# Altium integrated library Motorola Peripheral Bus Interface Controller.IntLib: 8 symbols
Pins are listed as number, name and electrical type; pins without a type are passive.

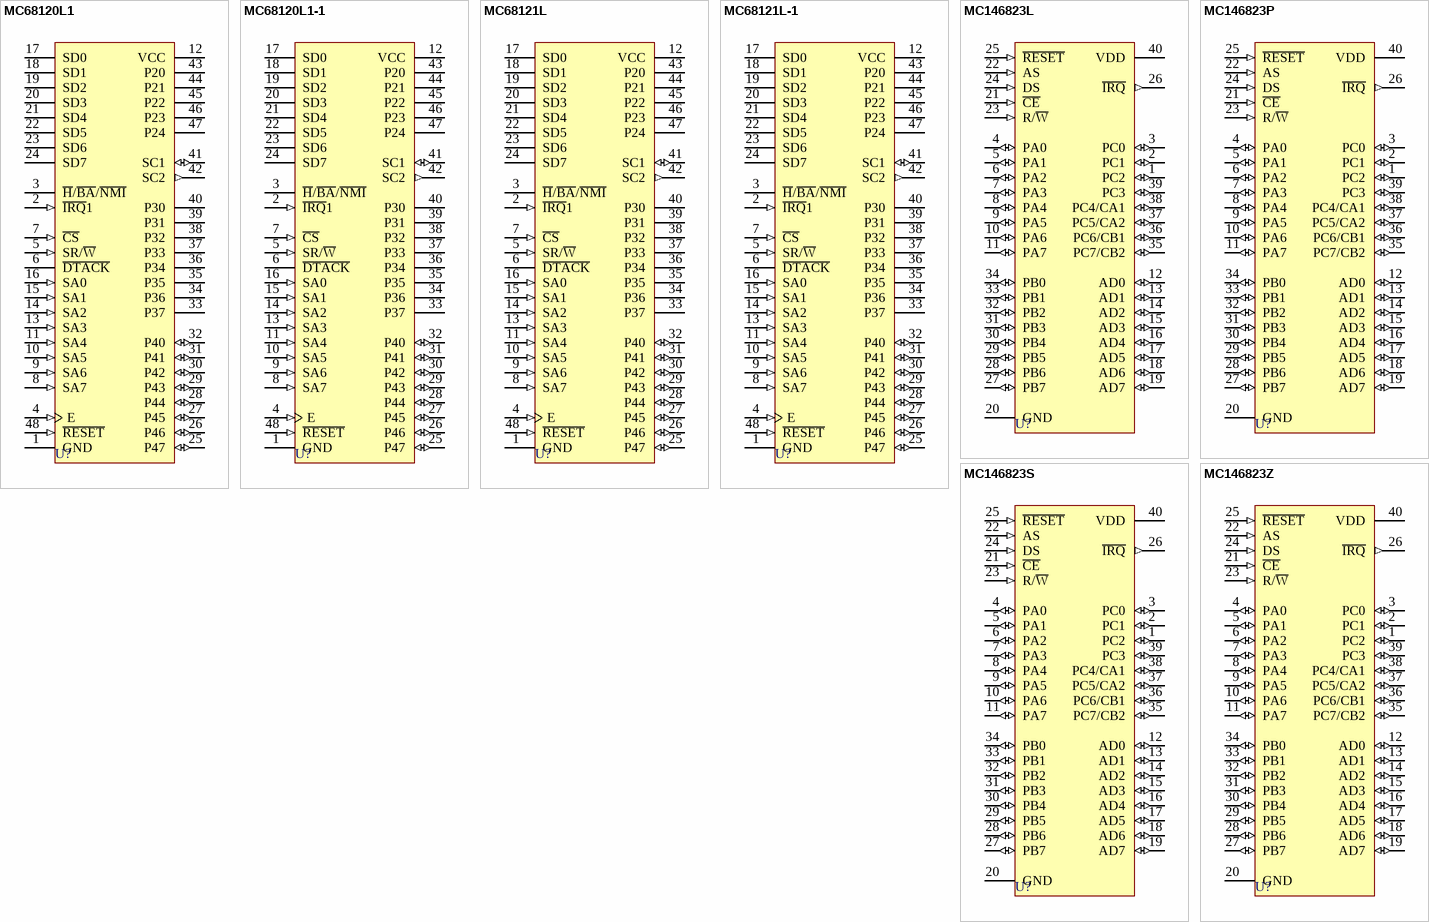
[diagram p0: symbols MC68120L1 to MC146823Z]

## MC68120L1
designator U?
Intelligent Peripheral Controller; Published: 17-Jul-2002; LatestRevisionDate: 06-Jun-2005; LatestRevisionNote: Stylized 3D Model Added.; DatasheetVersion: 1984; PackageReference: 740-02; Publisher: Altium Limited; PackageDescription: DIP; 48 Leads; Row Spacing 15.24 mm; Pitch 2.54 mm
footprint 740-02 (DIP; 48 Leads; Row Spacing 15.24 mm; Pitch 2.54 mm)
3D model 740-02 (DIP; 48 Leads; Row Spacing 15.24 mm; Pitch 2.54 mm)
pins: 1 GND (power), 2 ~{IRQ}1 (in), 3 ~{H}/~{BA}/~{NMI} (oc), 4 E (in), 5 SR/~{W} (in), 6 ~{DTACK} (oc), 7 ~{CS} (in), 8 SA7 (in), 9 SA6 (in), 10 SA5 (in), 11 SA4 (in), 12 VCC (power), 13 SA3 (in), 14 SA2 (in), 15 SA1 (in), 16 SA0 (in), 17 SD0 (hiz), 18 SD1 (hiz), 19 SD2 (hiz), 20 SD3 (hiz), 21 SD4 (hiz), 22 SD5 (hiz), 23 SD6 (hiz), 24 SD7 (hiz), 25 P47 (io), 26 P46 (io), 27 P45 (io), 28 P44 (io), 29 P43 (io), 30 P42 (io), 31 P41 (io), 32 P40 (io), 33 P37 (hiz), 34 P36 (hiz), 35 P35 (hiz), 36 P34 (hiz), 37 P33 (hiz), 38 P32 (hiz), 39 P31 (hiz), 40 P30 (hiz), 41 SC1 (io), 42 SC2 (out), 43 P20 (hiz), 44 P21 (hiz), 45 P22 (hiz), 46 P23 (hiz), 47 P24 (hiz), 48 ~{RESET} (in)

## MC68120L1-1
designator U?
Intelligent Peripheral Controller; Published: 17-Jul-2002; LatestRevisionDate: 06-Jun-2005; LatestRevisionNote: Stylized 3D Model Added.; DatasheetVersion: 1984; PackageReference: 740-02; Publisher: Altium Limited; PackageDescription: DIP; 48 Leads; Row Spacing 15.24 mm; Pitch 2.54 mm
footprint 740-02 (DIP; 48 Leads; Row Spacing 15.24 mm; Pitch 2.54 mm)
3D model 740-02 (DIP; 48 Leads; Row Spacing 15.24 mm; Pitch 2.54 mm)
pins: 1 GND (power), 2 ~{IRQ}1 (in), 3 ~{H}/~{BA}/~{NMI} (oc), 4 E (in), 5 SR/~{W} (in), 6 ~{DTACK} (oc), 7 ~{CS} (in), 8 SA7 (in), 9 SA6 (in), 10 SA5 (in), 11 SA4 (in), 12 VCC (power), 13 SA3 (in), 14 SA2 (in), 15 SA1 (in), 16 SA0 (in), 17 SD0 (hiz), 18 SD1 (hiz), 19 SD2 (hiz), 20 SD3 (hiz), 21 SD4 (hiz), 22 SD5 (hiz), 23 SD6 (hiz), 24 SD7 (hiz), 25 P47 (io), 26 P46 (io), 27 P45 (io), 28 P44 (io), 29 P43 (io), 30 P42 (io), 31 P41 (io), 32 P40 (io), 33 P37 (hiz), 34 P36 (hiz), 35 P35 (hiz), 36 P34 (hiz), 37 P33 (hiz), 38 P32 (hiz), 39 P31 (hiz), 40 P30 (hiz), 41 SC1 (io), 42 SC2 (out), 43 P20 (hiz), 44 P21 (hiz), 45 P22 (hiz), 46 P23 (hiz), 47 P24 (hiz), 48 ~{RESET} (in)

## MC68121L
designator U?
Intelligent Peripheral Controller; Published: 17-Jul-2002; LatestRevisionDate: 06-Jun-2005; LatestRevisionNote: Stylized 3D Model Added.; DatasheetVersion: 1984; PackageReference: 740-02; Publisher: Altium Limited; PackageDescription: DIP; 48 Leads; Row Spacing 15.24 mm; Pitch 2.54 mm
footprint 740-02 (DIP; 48 Leads; Row Spacing 15.24 mm; Pitch 2.54 mm)
3D model 740-02 (DIP; 48 Leads; Row Spacing 15.24 mm; Pitch 2.54 mm)
pins: 1 GND (power), 2 ~{IRQ}1 (in), 3 ~{H}/~{BA}/~{NMI} (oc), 4 E (in), 5 SR/~{W} (in), 6 ~{DTACK} (oc), 7 ~{CS} (in), 8 SA7 (in), 9 SA6 (in), 10 SA5 (in), 11 SA4 (in), 12 VCC (power), 13 SA3 (in), 14 SA2 (in), 15 SA1 (in), 16 SA0 (in), 17 SD0 (hiz), 18 SD1 (hiz), 19 SD2 (hiz), 20 SD3 (hiz), 21 SD4 (hiz), 22 SD5 (hiz), 23 SD6 (hiz), 24 SD7 (hiz), 25 P47 (io), 26 P46 (io), 27 P45 (io), 28 P44 (io), 29 P43 (io), 30 P42 (io), 31 P41 (io), 32 P40 (io), 33 P37 (hiz), 34 P36 (hiz), 35 P35 (hiz), 36 P34 (hiz), 37 P33 (hiz), 38 P32 (hiz), 39 P31 (hiz), 40 P30 (hiz), 41 SC1 (io), 42 SC2 (out), 43 P20 (hiz), 44 P21 (hiz), 45 P22 (hiz), 46 P23 (hiz), 47 P24 (hiz), 48 ~{RESET} (in)

## MC68121L-1
designator U?
Intelligent Peripheral Controller; Published: 17-Jul-2002; LatestRevisionDate: 06-Jun-2005; LatestRevisionNote: Stylized 3D Model Added.; DatasheetVersion: 1984; PackageReference: 740-02; Publisher: Altium Limited; PackageDescription: DIP; 48 Leads; Row Spacing 15.24 mm; Pitch 2.54 mm
footprint 740-02 (DIP; 48 Leads; Row Spacing 15.24 mm; Pitch 2.54 mm)
3D model 740-02 (DIP; 48 Leads; Row Spacing 15.24 mm; Pitch 2.54 mm)
pins: 1 GND (power), 2 ~{IRQ}1 (in), 3 ~{H}/~{BA}/~{NMI} (oc), 4 E (in), 5 SR/~{W} (in), 6 ~{DTACK} (oc), 7 ~{CS} (in), 8 SA7 (in), 9 SA6 (in), 10 SA5 (in), 11 SA4 (in), 12 VCC (power), 13 SA3 (in), 14 SA2 (in), 15 SA1 (in), 16 SA0 (in), 17 SD0 (hiz), 18 SD1 (hiz), 19 SD2 (hiz), 20 SD3 (hiz), 21 SD4 (hiz), 22 SD5 (hiz), 23 SD6 (hiz), 24 SD7 (hiz), 25 P47 (io), 26 P46 (io), 27 P45 (io), 28 P44 (io), 29 P43 (io), 30 P42 (io), 31 P41 (io), 32 P40 (io), 33 P37 (hiz), 34 P36 (hiz), 35 P35 (hiz), 36 P34 (hiz), 37 P33 (hiz), 38 P32 (hiz), 39 P31 (hiz), 40 P30 (hiz), 41 SC1 (io), 42 SC2 (out), 43 P20 (hiz), 44 P21 (hiz), 45 P22 (hiz), 46 P23 (hiz), 47 P24 (hiz), 48 ~{RESET} (in)

## MC146823L
designator U?
Parallel Interface; Published: 17-Jul-2002; LatestRevisionDate: 06-Jun-2005; LatestRevisionNote: Stylized 3D Model Added.; DatasheetVersion: 1984; PackageReference: 715-05; Publisher: Altium Limited; PackageDescription: DIP; 40 Leads; Row Spacing 15.24 mm; Pitch 2.54 mm
footprint 715-05 (DIP; 40 Leads; Row Spacing 15.24 mm; Pitch 2.54 mm)
3D model 715-05 (DIP; 40 Leads; Row Spacing 15.24 mm; Pitch 2.54 mm)
pins: 1 PC2 (io), 2 PC1 (io), 3 PC0 (io), 4 PA0 (io), 5 PA1 (io), 6 PA2 (io), 7 PA3 (io), 8 PA4 (io), 9 PA5 (io), 10 PA6 (io), 11 PA7 (io), 12 AD0 (io), 13 AD1 (io), 14 AD2 (io), 15 AD3 (io), 16 AD4 (io), 17 AD5 (io), 18 AD6 (io), 19 AD7 (io), 20 GND (power), 21 ~{CE} (in), 22 AS (in), 23 R/~{W} (in), 24 DS (in), 25 ~{RESET} (in), 26 ~{IRQ} (out), 27 PB7 (io), 28 PB6 (io), 29 PB5 (io), 30 PB4 (io), 31 PB3 (io), 32 PB2 (io), 33 PB1 (io), 34 PB0 (io), 35 PC7/CB2 (io), 36 PC6/CB1 (io), 37 PC5/CA2 (io), 38 PC4/CA1 (io), 39 PC3 (io), 40 VDD (power)

## MC146823P
designator U?
Parallel Interface; Published: 17-Jul-2002; LatestRevisionDate: 06-Jun-2005; LatestRevisionNote: Stylized 3D Model Added.; DatasheetVersion: 1984; PackageReference: 711-03; Publisher: Altium Limited; PackageDescription: DIP; 40 Leads; Row Spacing 15.24 mm; Pitch 2.54 mm
footprint 711-03 (DIP; 40 Leads; Row Spacing 15.24 mm; Pitch 2.54 mm)
3D model 711-03 (DIP; 40 Leads; Row Spacing 15.24 mm; Pitch 2.54 mm)
pins: 1 PC2 (io), 2 PC1 (io), 3 PC0 (io), 4 PA0 (io), 5 PA1 (io), 6 PA2 (io), 7 PA3 (io), 8 PA4 (io), 9 PA5 (io), 10 PA6 (io), 11 PA7 (io), 12 AD0 (io), 13 AD1 (io), 14 AD2 (io), 15 AD3 (io), 16 AD4 (io), 17 AD5 (io), 18 AD6 (io), 19 AD7 (io), 20 GND (power), 21 ~{CE} (in), 22 AS (in), 23 R/~{W} (in), 24 DS (in), 25 ~{RESET} (in), 26 ~{IRQ} (out), 27 PB7 (io), 28 PB6 (io), 29 PB5 (io), 30 PB4 (io), 31 PB3 (io), 32 PB2 (io), 33 PB1 (io), 34 PB0 (io), 35 PC7/CB2 (io), 36 PC6/CB1 (io), 37 PC5/CA2 (io), 38 PC4/CA1 (io), 39 PC3 (io), 40 VDD (power)

## MC146823S
designator U?
Parallel Interface; Published: 17-Jul-2002; LatestRevisionDate: 06-Jun-2005; LatestRevisionNote: Stylized 3D Model Added.; DatasheetVersion: 1984; PackageReference: 734-04; Publisher: Altium Limited; PackageDescription: DIP; 40 Leads; Row Spacing 15.24 mm; Pitch 2.54 mm; Code_JEDEC: MS-011-AC
footprint 734-04 (DIP; 40 Leads; Row Spacing 15.24 mm; Pitch 2.54 mm)
3D model 734-04 (DIP; 40 Leads; Row Spacing 15.24 mm; Pitch 2.54 mm)
pins: 1 PC2 (io), 2 PC1 (io), 3 PC0 (io), 4 PA0 (io), 5 PA1 (io), 6 PA2 (io), 7 PA3 (io), 8 PA4 (io), 9 PA5 (io), 10 PA6 (io), 11 PA7 (io), 12 AD0 (io), 13 AD1 (io), 14 AD2 (io), 15 AD3 (io), 16 AD4 (io), 17 AD5 (io), 18 AD6 (io), 19 AD7 (io), 20 GND (power), 21 ~{CE} (in), 22 AS (in), 23 R/~{W} (in), 24 DS (in), 25 ~{RESET} (in), 26 ~{IRQ} (out), 27 PB7 (io), 28 PB6 (io), 29 PB5 (io), 30 PB4 (io), 31 PB3 (io), 32 PB2 (io), 33 PB1 (io), 34 PB0 (io), 35 PC7/CB2 (io), 36 PC6/CB1 (io), 37 PC5/CA2 (io), 38 PC4/CA1 (io), 39 PC3 (io), 40 VDD (power)

## MC146823Z
designator U?
Parallel Interface; Published: 17-Jul-2002; DatasheetVersion: 1984; PackageReference: 761-01; Publisher: Altium Limited; PackageDescription: Leadless Chip Carrier; 40 Terminals; Body 12.3 x 12.3 mm; Pitch 1.016 mm
footprint 761-01 (Leadless Chip Carrier; 40 Terminals; Body 12.3 x 12.3 mm; Pitch 1.016 mm)
pins: 1 PC2 (io), 2 PC1 (io), 3 PC0 (io), 4 PA0 (io), 5 PA1 (io), 6 PA2 (io), 7 PA3 (io), 8 PA4 (io), 9 PA5 (io), 10 PA6 (io), 11 PA7 (io), 12 AD0 (io), 13 AD1 (io), 14 AD2 (io), 15 AD3 (io), 16 AD4 (io), 17 AD5 (io), 18 AD6 (io), 19 AD7 (io), 20 GND (power), 21 ~{CE} (in), 22 AS (in), 23 R/~{W} (in), 24 DS (in), 25 ~{RESET} (in), 26 ~{IRQ} (out), 27 PB7 (io), 28 PB6 (io), 29 PB5 (io), 30 PB4 (io), 31 PB3 (io), 32 PB2 (io), 33 PB1 (io), 34 PB0 (io), 35 PC7/CB2 (io), 36 PC6/CB1 (io), 37 PC5/CA2 (io), 38 PC4/CA1 (io), 39 PC3 (io), 40 VDD (power)